# Altium schematic symbol library TranFet.SchLib: 13 symbols
Pins are listed as number, name and electrical type; pins without a type are passive.

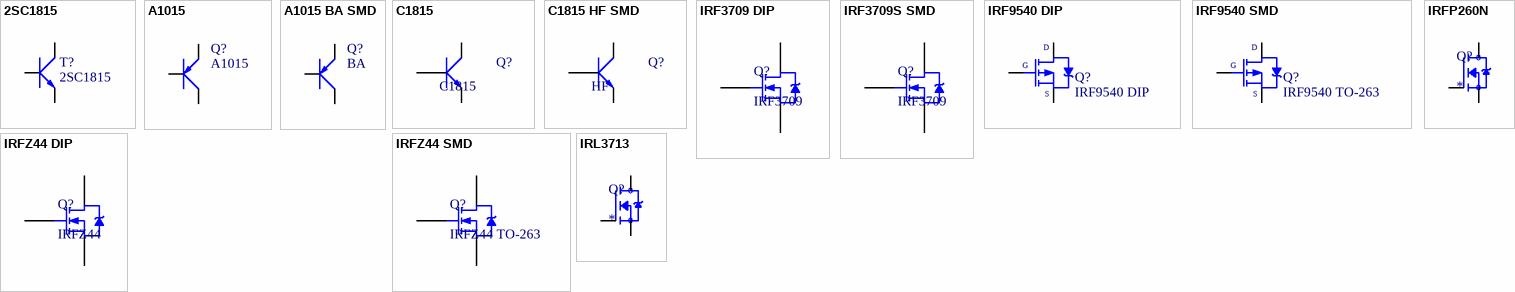
[diagram p0: symbols 2SC1815 to IRL3713]

## 2SC1815
designator T?
Bipolar Transistors - BJT NPN Epitaxial Sil
footprint TO92-BCE (3-Pin Plastic Header-Style Package)
footprint TO92-BCE1 (3-Pin Plastic Header-Style Package)
footprint TO92-BCE2 (3-Pin Plastic Header-Style Package)
footprint TO92-BCE3 (3-Pin Plastic Header-Style Package)
footprint SOT23-BCE (SOT23, plastic surface-mounted package; 3 leads)
pins: 1 B, 2 C, 3 E

## A1015
designator Q?
PNP 600mW, ECB; Value: A1015
footprint TO92 (TO-92)
pins: 1 E, 2 C, 3 B

## A1015 BA SMD
designator Q?, comment BA
PNP 600mW, ECB
footprint SOT23
pins: 1 B, 2 E, 3 C

## C1815
designator Q?
NPN transistor; Value: C9014
footprint TO92 (TO-92)
pins: 1 E, 2 C, 3 B

## C1815 HF SMD
designator Q?, comment HF
NPN transistor; Value: C9014
footprint SOT23
pins: 1 B, 2 E, 3 C

## IRF3709 DIP
designator Q?, comment IRF3709
N-Channel Power MOSFET
footprint TO220 (TO-220)
pins: 1 G, 2 D, 3 S

## IRF3709S SMD
designator Q?, comment IRF3709
N-Channel Power MOSFET
footprint D2PAK
pins: 1 G, 2 D, 3 S

## IRF9540 DIP
designator Q?
P-Channel Power MOSFET; Note: Pin 2 is electrically connected to pin 4.; Published: 8-Jun-2000; LatestRevisionDate: 17-Jul-2002; LatestRevisionNote: Re-released for DXP Platform.; DatasheetVersion: PD-9.421C; PackageVersion: Feb-1997; PackageReference: TO-220AB; Publisher: Altium Limited; PackageDescription: TO, Thru-Hole, Vertical, Heatsink Mounted; 3 In-Line Leads; Pitch 2.54 mm; ComponentLink1Description: Manufacturer Link; ComponentLink1URL: http://www.irf.com/; ComponentLink2Description: Datasheet; ComponentLink2URL: http://www.irf.com/product-info/datasheets/data/irf9540.pdf
footprint TO220 (TO-220)
pins: 1 G, 2 D, 3 S

## IRF9540 SMD
designator Q?, comment IRF9540 TO-263
P-Channel Power MOSFET; Note: Pin 2 is electrically connected to pin 4.; Published: 8-Jun-2000; LatestRevisionDate: 17-Jul-2002; LatestRevisionNote: Re-released for DXP Platform.; DatasheetVersion: PD-9.421C; PackageVersion: Feb-1997; PackageReference: TO-220AB; Publisher: Altium Limited; PackageDescription: TO, Thru-Hole, Vertical, Heatsink Mounted; 3 In-Line Leads; Pitch 2.54 mm; ComponentLink1Description: Manufacturer Link; ComponentLink1URL: http://www.irf.com/; ComponentLink2Description: Datasheet; ComponentLink2URL: http://www.irf.com/product-info/datasheets/data/irf9540.pdf
footprint TO-263-3_MOSFET (CASE: TO-263)
pins: 1 G, 2 D, 3 S

## IRFP260N
designator Q?
N-Channel 200V 50A (Tc) 300W (Tc) Through Hole TO-247AC; MP: IRFP260N; MF: Infineon Technologies; Check_prices: https://www.snapeda.com/parts/IRFP260N/Infineon%20Technologies/view-part/2777552/?ref=eda; SnapEDA_Link: https://www.snapeda.com/parts/IRFP260N/Infineon%20Technologies/view-part/2777552/?ref=snap; Availability: Unavailable; Value: *; Price: None; Package: TO-247-3 Infineon Technologies
footprint TO545P1560X500X2460-3
pins: 1 G, 2 D, 3 S

## IRFZ44 DIP
designator Q?, comment IRFZ44
N-Channel Power MOSFET
footprint TO220 (TO-220)
pins: 1 G, 2 D, 3 S

## IRFZ44 SMD
designator Q?, comment IRFZ44 TO-263
N-Channel Power MOSFET
footprint D2PAK (D2-PAK, 4-Leads, Body 9.2x10mm, Pitch 2.54mm, Lead Span 14.2mm, IPC Low Density)
pins: 1 G, 2 D, 3 S

## IRL3713
designator Q?
N-Channel 200V 50A (Tc) 300W (Tc) Through Hole TO-247AC; MP: IRFP260N; MF: Infineon Technologies; Check_prices: https://www.snapeda.com/parts/IRFP260N/Infineon%20Technologies/view-part/2777552/?ref=eda; SnapEDA_Link: https://www.snapeda.com/parts/IRFP260N/Infineon%20Technologies/view-part/2777552/?ref=snap; Availability: Unavailable; Value: *; Price: None; Package: TO-247-3 Infineon Technologies
footprint TO220 (TO-220)
pins: 1 G, 2 D, 3 S